# Altium schematic symbol library NRF24L01_PA.SchLib: 4 symbols
Pins are listed as number, name and electrical type; pins without a type are passive.

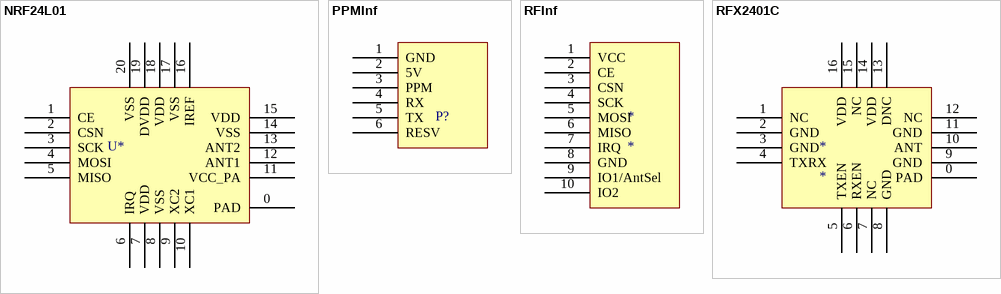
[diagram p0: symbols NRF24L01 to RFX2401C]

## NRF24L01
designator U*  (value not drawn)
footprint NRF24L01
pins: 0 PAD, 1 CE, 2 CSN, 3 SCK, 4 MOSI, 5 MISO, 6 IRQ, 7 VDD, 8 VSS, 9 XC2, 10 XC1, 11 VCC_PA, 12 ANT1, 13 ANT2, 14 VSS, 15 VDD, 16 IREF, 17 VSS, 18 VDD, 19 DVDD, 20 VSS

## PPMInf
designator P?  (value not drawn)
footprint PPMInf
pins: 1 GND, 2 5V, 3 PPM, 4 RX, 5 TX, 6 RESV

## RFInf
designator *
footprint RFInf
pins: 1 VCC, 2 CE, 3 CSN, 4 SCK, 5 MOSI, 6 MISO, 7 IRQ, 8 GND, 9 IO1/AntSel, 10 IO2

## RFX2401C
designator *
footprint RFX2401C
pins: 0 PAD, 1 NC, 2 GND, 3 GND, 4 TXRX, 5 TXEN, 6 RXEN, 7 NC, 8 GND, 9 GND, 10 ANT, 11 GND, 12 NC, 13 DNC, 14 VDD, 15 NC, 16 VDD